# EAGLE library part MOLEX-SD-503398-1892 (library molex-custom)
Micro SD card holder, push/pull small 8C
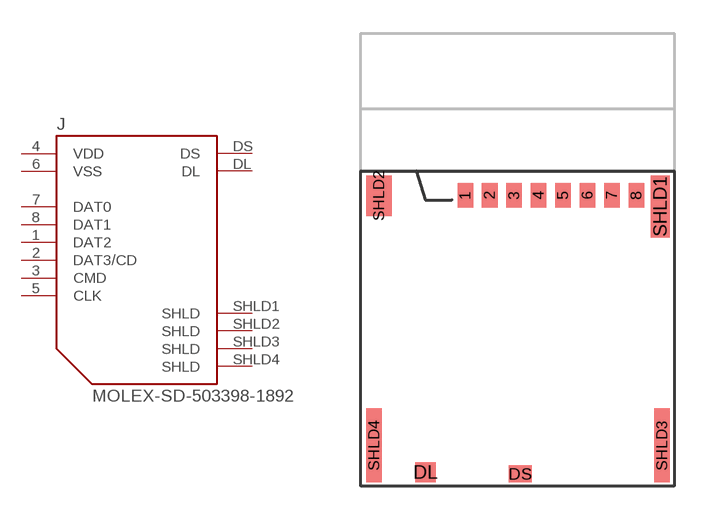
[diagram p3: symbol with the pads of MOLEX-SD-503398-003; footprint MOLEX-SD-503398-003]

Designator prefix J

## MOLEX-SD-503398-1892  [MOLEX-SD-503398-003]
1  DAT2
2  DAT3/CD
3  CMD
4  VDD  pwr
5  CLK
6  VSS  pwr
7  DAT0
8  DAT1
DL  DL  pas
DS  DS  pas
SHLD1  SHLD  pwr
SHLD2  SHLD  pwr
SHLD3  SHLD  pwr
SHLD4  SHLD  pwr

## Footprint MOLEX-SD-503398-003 (pad centres in mm)
smd 0.7 x 1.1: 1 -7.7,0; 2 -6.6,0; 3 -5.5,0; 4 -4.4,0; 5 -3.3,0; 6 -2.2,0; 7 -1.1,0; 8 0,0
smd 0.93 x 0.9: DL -9.49,-12.465
smd 1.05 x 0.78: DS -5.225,-12.54
smd 0.86 x 2.8: SHLD1 1.08,-0.5
smd 1.14 x 1.83: SHLD2 -11.58,-0.015
smd 0.7 x 3.33: SHLD3 1.16,-11.265; SHLD4 -11.8,-11.265